# Altium schematic symbol library TruthEar.SchLib: 21 symbols
Pins are listed as number, name and electrical type; pins without a type are passive.

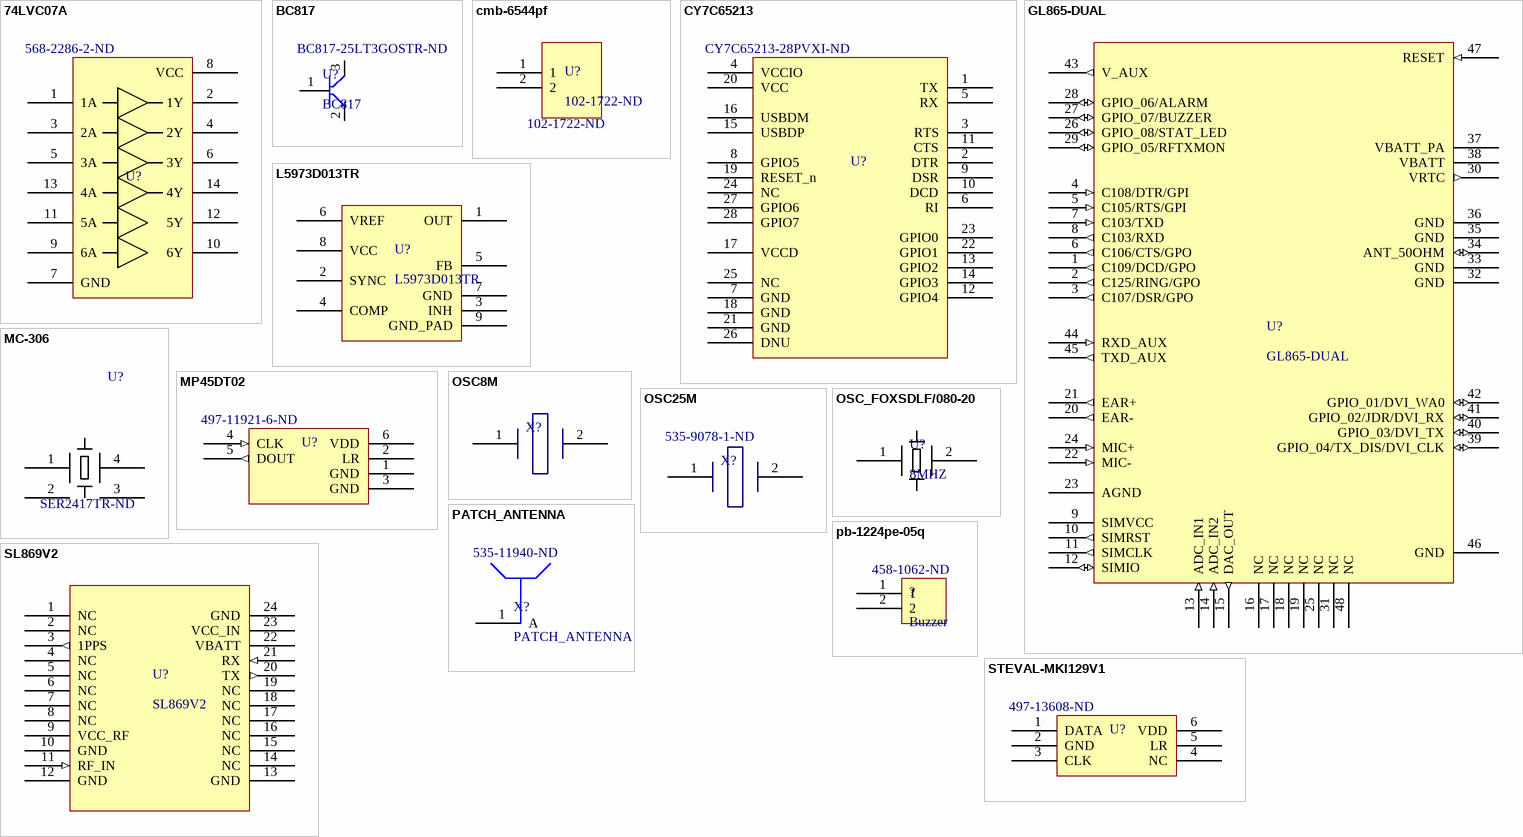
[diagram p0: symbols 74LVC07A to STEVAL-MKI129V1]

## 74LVC07A
designator U?  Supplier Part Number 1: 568-2286-2-ND  (hidden comment: 74LVC07A)
Supplier 1: Digi-Key
footprint TSOP127P600X145-14N (TSOP, 14-Leads, Body 8,65x3,90mm, Pitch 1,27mm, IPC Medium Density)
pins: 1 1A (power), 2 1Y (power), 3 2A (power), 4 2Y (power), 5 3A (power), 6 3Y (power), 7 GND (power), 8 VCC (power), 9 6A (power), 10 6Y (power), 11 5A (power), 12 5Y (power), 13 4A (power), 14 4Y (power)

## BC817
designator U?  Supplier Part Number 1: BC817-25LT3GOSTR-ND
Supplier 1: Digi-Key
footprint SOT95P237X111-3N_SOT-23 (SOT23, 3-Leads, Body 2.92x2.37mm, Pitch 0.95mm, IPC Medium Density)
pins: 1 B, 2 E, 3 C

## cmb-6544pf
designator U?, comment 102-1722-ND
Supplier 1: Digi-Key; Supplier Part Number 1: 102-1722-ND
footprint cmb-6544pf
pins: 1, 2

## CY7C65213
designator U?  Supplier Part Number 1: CY7C65213-28PVXI-ND  (hidden comment: CY7C65213)
Supplier 1: Digi-Key
footprint SOP65P780X200-28M (SOP, 28-Leads, Body 10,30x5,30mm, Pitch 0,65mm, IPC Low Density)
pins: 1 TX (power), 2 DTR (power), 3 RTS (power), 4 VCCIO (power), 5 RX (power), 6 RI (power), 7 GND (power), 8 GPIO5 (power), 9 DSR (power), 10 DCD (power), 11 CTS (power), 12 GPIO4 (power), 13 GPIO2 (power), 14 GPIO3 (power), 15 USBDP (power), 16 USBDM (power), 17 VCCD (power), 18 GND (power), 19 RESET_n (power), 20 VCC (power), 21 GND (power), 22 GPIO1 (power), 23 GPIO0 (power), 24 NC (power), 25 NC (power), 26 DNU (power), 27 GPIO6 (power), 28 GPIO7 (power)

## GL865-DUAL
designator U?
footprint GL865_FOOT
pins: 1 C109/DCD/GPO (out), 2 C125/RING/GPO (out), 3 C107/DSR/GPO (out), 4 C108/DTR/GPI (in), 5 C105/RTS/GPI (in), 6 C106/CTS/GPO (out), 7 C103/TXD (in), 8 C103/RXD (out), 9 SIMVCC, 10 SIMRST (out), 11 SIMCLK (out), 12 SIMIO (io), 13 ADC_IN1 (in), 14 ADC_IN2 (in), 15 DAC_OUT (out), 16 NC, 17 NC, 18 NC, 19 NC, 20 EAR- (out), 21 EAR+ (out), 22 MIC- (in), 23 AGND, 24 MIC+ (in), 25 NC, 26 GPIO_08/STAT_LED (io), 27 GPIO_07/BUZZER (io), 28 GPIO_06/ALARM (io), 29 GPIO_05/RFTXMON (io), 30 VRTC (out), 31 NC, 32 GND, 33 GND, 34 ANT_50OHM (io), 35 GND, 36 GND, 37 VBATT_PA, 38 VBATT, 39 GPIO_04/TX_DIS/DVI_CLK (io), 40 GPIO_03/DVI_TX (io), 41 GPIO_02/JDR/DVI_RX (io), 42 GPIO_01/DVI_WA0 (io), 43 V_AUX (out), 44 RXD_AUX (in), 45 TXD_AUX (out), 46 GND, 47 RESET (in), 48 NC

## L5973D013TR
designator U?
IC REG BUCK ADJ 2.5A SOIC8; Supplier 1: Digi-Key; Supplier Part Number 1: 497-14766-5-ND
footprint SOIC127P600X175_HS-9N (SOIC, 8-Leads, Body 4.90x3.90mm, Pitch 1.27mm, Thermal Pad 3.20x2.51mm, IPC Medium Density)
pins: 1 OUT, 2 SYNC, 3 INH, 4 COMP, 5 FB, 6 VREF, 7 GND, 8 VCC, 9 GND_PAD

## MC-306
designator U?, comment Supplier Part Number 1: SER2417TR-ND  (hidden comment: 32.768KHZ)
Supplier 1: Digi-Key
footprint SOJ550P380X254-4M (SOJ, 4-Leads, Body 8,00x3,80mm, Pitch 5,50mm, IPC Low Density)
pins: 1 OSC1 (power), 2 NC (power), 3 NC (power), 4 OSC2 (power)

## MP45DT02
designator U?  Supplier Part Number 1: 497-11921-6-ND  (hidden comment: MP45DT02)
Supplier 1: Digi-Key
footprint LGA6C165P2X3_376X472X125 (LGA, 6-Leads, Body 3,76x4,72mmx1,25mm, Pitch 1,65mm)
pins: 1 GND (power), 2 LR (power), 3 GND (power), 4 CLK (in), 5 DOUT (out), 6 VDD (power)

## OSC8M
designator X?, comment 8.000Mhz  (value not drawn)
Supplier1: http://www.voelkner.de/; Supplier Part Number 1: Q33261
footprint SODFL1270X420-2L (SODFL, 2-Leads, Body 4,70x12,70mm, IPC High Density)
pins: 1 (power), 2 (power)

## OSC25M
designator X?, comment Supplier Part Number 1: 535-9078-1-ND  (hidden comment: 25.000Mhz)
Supplier 1: Digi-Key
footprint SODFL1270X420-2L (SODFL, 2-Leads, Body 4,70x12,70mm, IPC High Density)
pins: 1 (power), 2 (power)

## OSC_FOXSDLF/080-20
designator U?, comment 8MHZ
CRYSTAL, 8MHz, 20PF, SMD; Supplier 1: Newark; Supplier Part Number 1: 61T5297
footprint HC49SDLF
pins: 1 NTC, 2 NTC

## PATCH_ANTENNA
designator X?  Supplier Part Number 1: 535-11940-ND
Supplier 1: Digi-Key
footprint PATCH_ANTENNA (1 pin)
pins: 1 A

## pb-1224pe-05q
designator ?, comment Buzzer  Supplier Part Number 1: 458-1062-ND
Supplier 1: Digi-Key
footprint pb1224pe
pins: 1, 2

## SL869V2
designator U?
footprint SL869V2_FOOT
pins: 1 NC, 2 NC, 3 1PPS (out), 4 NC, 5 NC, 6 NC, 7 NC, 8 NC, 9 VCC_RF, 10 GND, 11 RF_IN (in), 12 GND, 13 GND, 14 NC, 15 NC, 16 NC, 17 NC, 18 NC, 19 NC, 20 TX (out), 21 RX (in), 22 VBATT, 23 VCC_IN, 24 GND

## STEVAL-MKI129V1
designator U?  Supplier Part Number 1: 497-13608-ND  (hidden comment: STEVAL-MKI129V1)
Supplier 1: Digi-Key
footprint STEVAL-MKI129V1 (Microphone Board)
pins: 1 DATA (power), 2 GND (power), 3 CLK (power), 4 NC (power), 5 LR (power), 6 VDD (power)

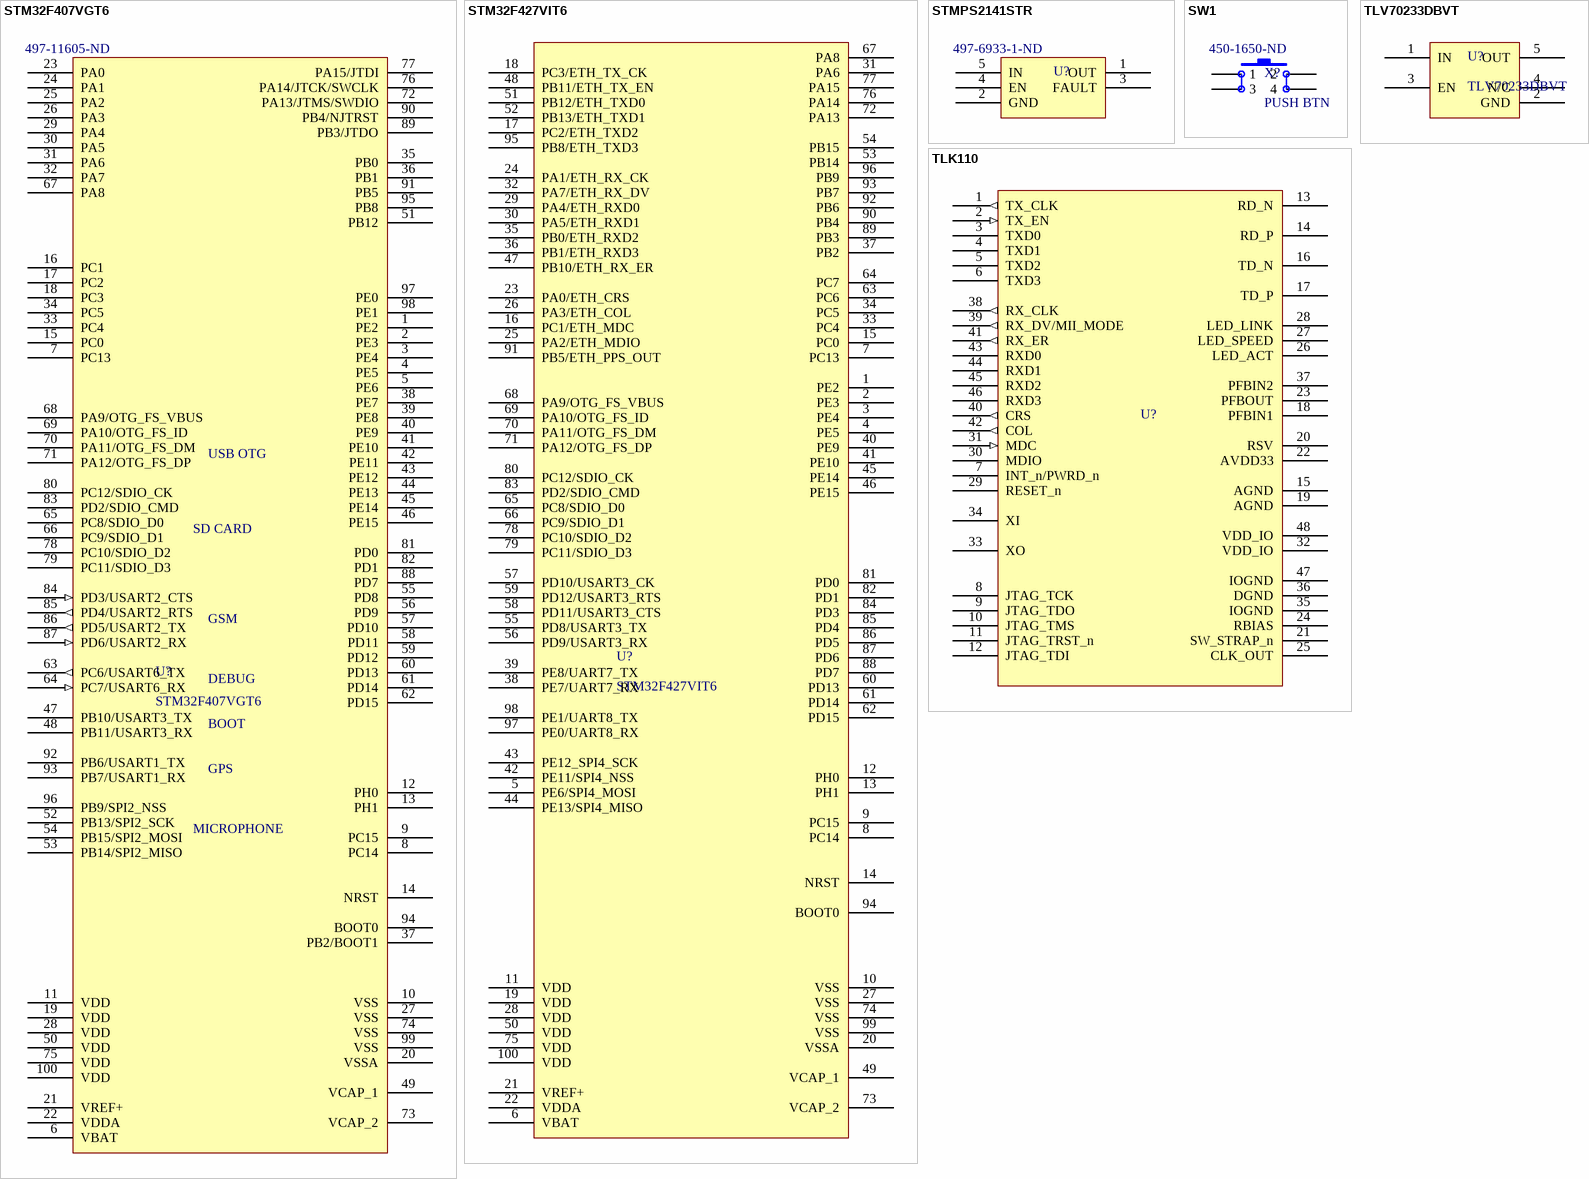
[diagram p1: symbols STM32F407VGT6 to TLV70233DBVT]

## STM32F407VGT6
designator U?  Supplier Part Number 1: 497-11605-ND
Supplier 1: Digi-Key
footprint TSQFP50P1600X1600X160-100M (TSQFP, 100-Leads, Body 14.00x14.00mm, Pitch 0.50mm, IPC Low Density)
pins: 1 PE2, 2 PE3, 3 PE4, 4 PE5, 5 PE6, 6 VBAT, 7 PC13, 8 PC14, 9 PC15, 10 VSS, 11 VDD, 12 PH0, 13 PH1, 14 NRST, 15 PC0, 16 PC1, 17 PC2, 18 PC3, 19 VDD, 20 VSSA, 21 VREF+, 22 VDDA, 23 PA0, 24 PA1, 25 PA2, 26 PA3, 27 VSS, 28 VDD, 29 PA4, 30 PA5, 31 PA6, 32 PA7, 33 PC4, 34 PC5, 35 PB0, 36 PB1, 37 PB2/BOOT1, 38 PE7, 39 PE8, 40 PE9, 41 PE10, 42 PE11, 43 PE12, 44 PE13, 45 PE14, 46 PE15, 47 PB10/USART3_TX, 48 PB11/USART3_RX, 49 VCAP_1, 50 VDD, 51 PB12, 52 PB13/SPI2_SCK, 53 PB14/SPI2_MISO, 54 PB15/SPI2_MOSI, 55 PD8, 56 PD9, 57 PD10, 58 PD11, 59 PD12, 60 PD13, 61 PD14, 62 PD15, 63 PC6/USART6_TX (out), 64 PC7/USART6_RX (in), 65 PC8/SDIO_D0, 66 PC9/SDIO_D1, 67 PA8, 68 PA9/OTG_FS_VBUS, 69 PA10/OTG_FS_ID, 70 PA11/OTG_FS_DM, 71 PA12/OTG_FS_DP, 72 PA13/JTMS/SWDIO, 73 VCAP_2, 74 VSS, 75 VDD, 76 PA14/JTCK/SWCLK, 77 PA15/JTDI, 78 PC10/SDIO_D2, 79 PC11/SDIO_D3, 80 PC12/SDIO_CK, 81 PD0, 82 PD1, 83 PD2/SDIO_CMD, 84 PD3/USART2_CTS (in), 85 PD4/USART2_RTS (out), 86 PD5/USART2_TX (out), 87 PD6/USART2_RX (in), 88 PD7, 89 PB3/JTDO, 90 PB4/NJTRST, 91 PB5, 92 PB6/USART1_TX, 93 PB7/USART1_RX, 94 BOOT0, 95 PB8, 96 PB9/SPI2_NSS, 97 PE0, 98 PE1, 99 VSS, 100 VDD
1 alternate drawing of the same symbol
text: USB OTG; SD CARD; GSM; DEBUG; BOOT; GPS; MICROPHONE

## STM32F427VIT6
designator U?
footprint TSQFP50P1600X1600X160-100M (TSQFP, 100-Leads, Body 14.00x14.00mm, Pitch 0.50mm, IPC Low Density)
pins: 1 PE2, 2 PE3, 3 PE4, 4 PE5, 5 PE6/SPI4_MOSI, 6 VBAT, 7 PC13, 8 PC14, 9 PC15, 10 VSS, 11 VDD, 12 PH0, 13 PH1, 14 NRST, 15 PC0, 16 PC1/ETH_MDC, 17 PC2/ETH_TXD2, 18 PC3/ETH_TX_CK, 19 VDD, 20 VSSA, 21 VREF+, 22 VDDA, 23 PA0/ETH_CRS, 24 PA1/ETH_RX_CK, 25 PA2/ETH_MDIO, 26 PA3/ETH_COL, 27 VSS, 28 VDD, 29 PA4/ETH_RXD0, 30 PA5/ETH_RXD1, 31 PA6, 32 PA7/ETH_RX_DV, 33 PC4, 34 PC5, 35 PB0/ETH_RXD2, 36 PB1/ETH_RXD3, 37 PB2, 38 PE7/UART7_RX, 39 PE8/UART7_TX, 40 PE9, 41 PE10, 42 PE11/SPI4_NSS, 43 PE12_SPI4_SCK, 44 PE13/SPI4_MISO, 45 PE14, 46 PE15, 47 PB10/ETH_RX_ER, 48 PB11/ETH_TX_EN, 49 VCAP_1, 50 VDD, 51 PB12/ETH_TXD0, 52 PB13/ETH_TXD1, 53 PB14, 54 PB15, 55 PD8/USART3_TX, 56 PD9/USART3_RX, 57 PD10/USART3_CK, 58 PD11/USART3_CTS, 59 PD12/USART3_RTS, 60 PD13, 61 PD14, 62 PD15, 63 PC6, 64 PC7, 65 PC8/SDIO_D0, 66 PC9/SDIO_D1, 67 PA8, 68 PA9/OTG_FS_VBUS, 69 PA10/OTG_FS_ID, 70 PA11/OTG_FS_DM, 71 PA12/OTG_FS_DP, 72 PA13, 73 VCAP_2, 74 VSS, 75 VDD, 76 PA14, 77 PA15, 78 PC10/SDIO_D2, 79 PC11/SDIO_D3, 80 PC12/SDIO_CK, 81 PD0, 82 PD1, 83 PD2/SDIO_CMD, 84 PD3, 85 PD4, 86 PD5, 87 PD6, 88 PD7, 89 PB3, 90 PB4, 91 PB5/ETH_PPS_OUT, 92 PB6, 93 PB7, 94 BOOT0, 95 PB8/ETH_TXD3, 96 PB9, 97 PE0/UART8_RX, 98 PE1/UART8_TX, 99 VSS, 100 VDD
1 alternate drawing of the same symbol

## STMPS2141STR
designator U?  Supplier Part Number 1: 497-6933-1-ND  (hidden comment: STMPS2141STR)
Supplier 1: Digi-Key
footprint SOT95P280X145-5N (SOT23, 5-Leads, Body 2,90x2,80mm, Pitch 0,95mm, IPC Medium Density)
pins: 1 OUT (power), 2 GND (power), 3 FAULT (power), 4 EN (power), 5 IN (power)

## SW1
designator X?, comment PUSH BTN  Supplier Part Number 1: 450-1650-ND
Supplier 1: Digi-Key
footprint PUSHBTN
pins: 1, 2, 3, 4

## TLK110
designator U?  (value not drawn)
footprint TSQFP50P900X900X145-48M (TSQFP, 48-Leads, Body 7,00x7,00mm, Pitch 0,50mm, IPC Low Density)
pins: 1 TX_CLK (out), 2 TX_EN (in), 3 TXD0 (power), 4 TXD1 (power), 5 TXD2 (power), 6 TXD3 (power), 7 INT_n/PWRD_n (power), 8 JTAG_TCK (power), 9 JTAG_TDO (power), 10 JTAG_TMS (power), 11 JTAG_TRST_n (power), 12 JTAG_TDI (power), 13 RD_N (power), 14 RD_P (power), 15 AGND (power), 16 TD_N (power), 17 TD_P (power), 18 PFBIN1 (power), 19 AGND (power), 20 RSV (power), 21 SW_STRAP_n (power), 22 AVDD33 (power), 23 PFBOUT (power), 24 RBIAS (power), 25 CLK_OUT (power), 26 LED_ACT (power), 27 LED_SPEED (power), 28 LED_LINK (power), 29 RESET_n (power), 30 MDIO (power), 31 MDC (in), 32 VDD_IO (power), 33 XO (power), 34 XI (power), 35 IOGND (power), 36 DGND (power), 37 PFBIN2 (power), 38 RX_CLK (out), 39 RX_DV/MII_MODE (out), 40 CRS (out), 41 RX_ER (out), 42 COL (out), 43 RXD0 (power), 44 RXD1 (power), 45 RXD2 (power), 46 RXD3 (power), 47 IOGND (power), 48 VDD_IO (power)

## TLV70233DBVT
designator U?
Supplier 1: Digi-Key; Supplier Part Number 1: 296-32415-1-ND
footprint SOT95P280X145-5M (SOT23, 5-Leads, Body 2,90x2,80mm, Pitch 0,95mm, IPC Low Density)
pins: 1 IN, 2 GND, 3 EN, 4 N/C, 5 OUT